# Altium footprint library BQ4050.PcbLib: 55 footprints (part 2 of 4)
Each footprint in its own frame and in the unit in brackets; x right, y up, seen from the top. Pads: shape width x height; smd on the part's side, far side on the other; paste and mask are expansions set on the pad; w line width, h text height; cw(c..) or ccw(c..) is an arc to the next point about the centre after c.
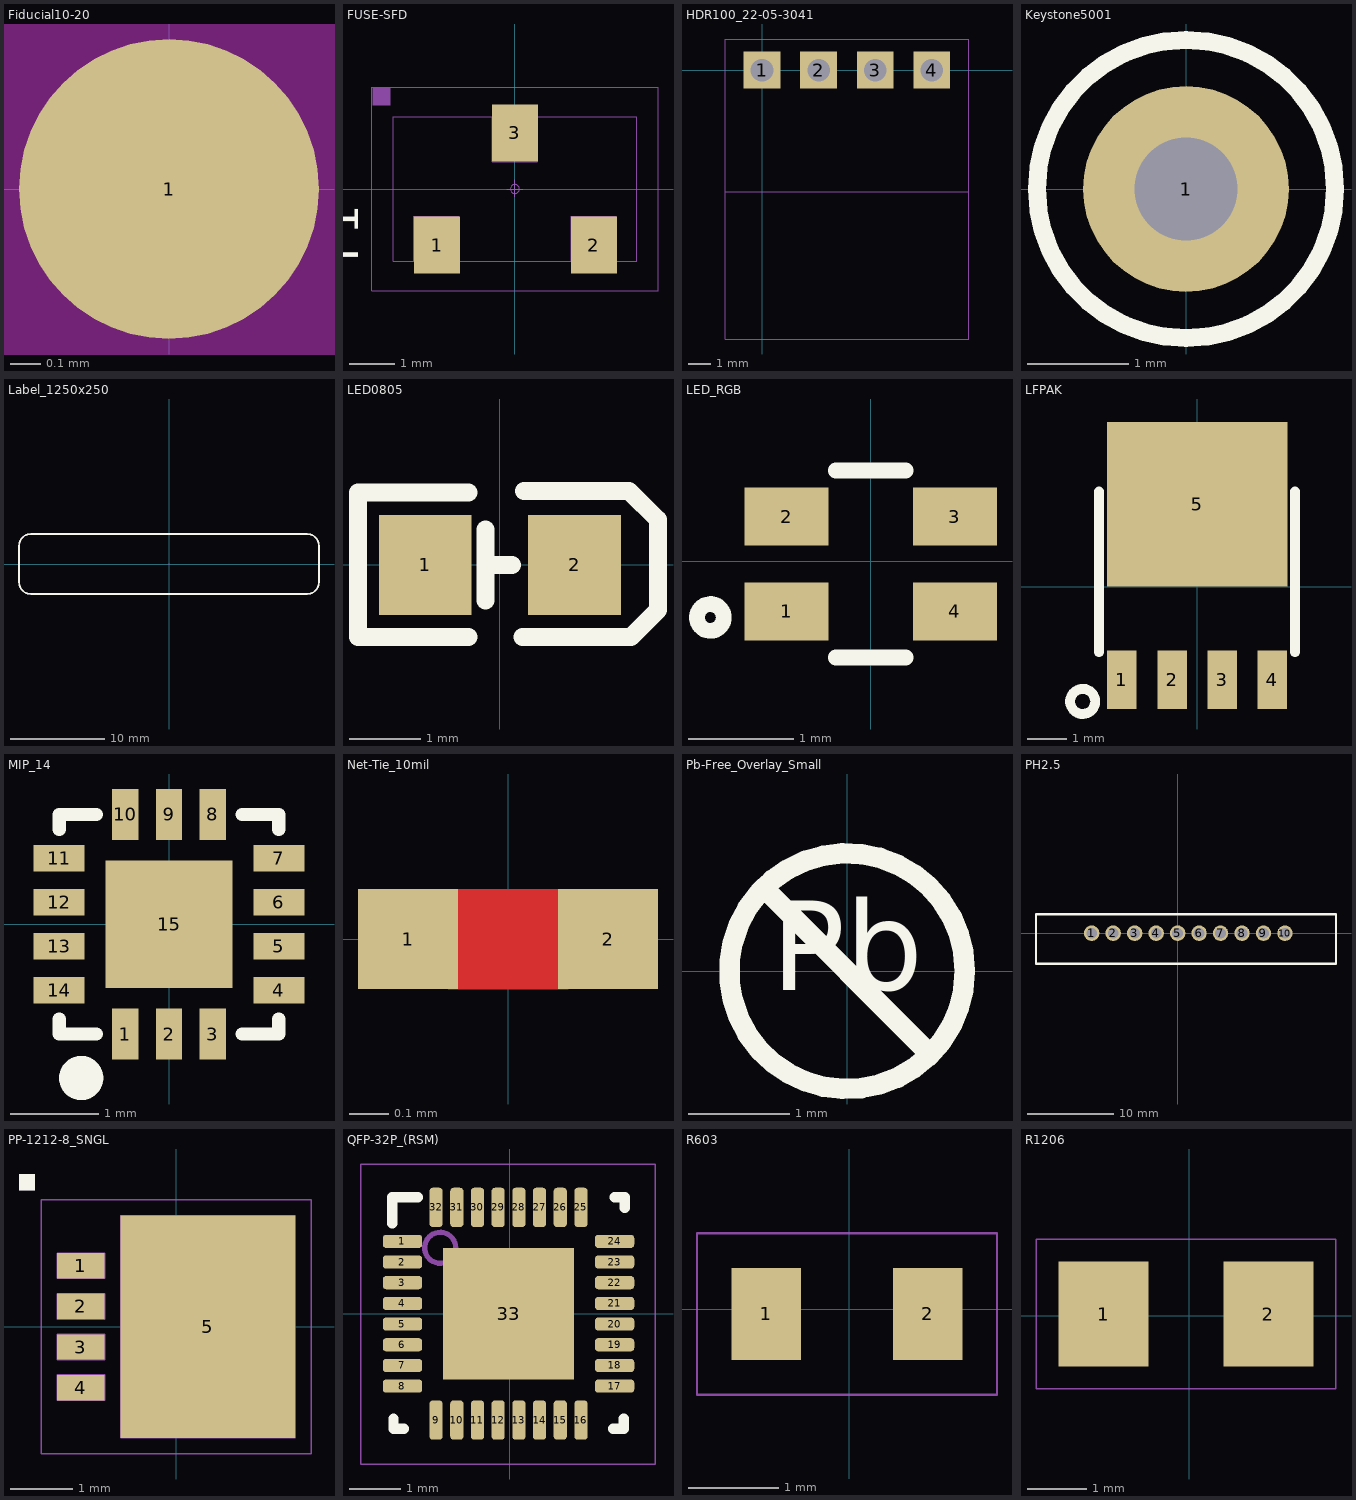
[diagram p1: the footprints below, top view; thin cyan lines are the x and y axes]

## Fiducial10-20 [mm]
pads (1):
  round 1 smd mask+0.5: 1(0,0)
Top Layer keep-out:
  circle w1.178: c0,0 r0.5

## FUSE-SFD [mil]
pads (3):
  rect 40x50 smd: 1(-68,-49) 2(69,-49) 3(0,49)
Top Overlay:
  text "F1" at -137,-63.57 h30
Mechanical 1:
  region: -124,73 -109,73 -109,88 -124,88
Mechanical 5:
  lines w1: -125,-89 -125,89 125,89 125,-89 -125,-89
Mechanical 16:
  circle w1: c0,0 r3.94
  lines w1: -73.66,-43.31 -63.82,-43.31 ; -68.74,-48.23 -68.74,-38.39 ; -6.89,0 6.89,0 ; -4.92,43.31 4.92,43.31 ; 0,-6.89 0,7.87 ; 0,38.39 0,48.23 ; 63.82,-43.31 73.66,-43.31 ; 68.74,-48.23 68.74,-38.39 ; -106.3,-62.99 106.3,-62.99 106.3,62.99 -106.3,62.99 -106.3,-62.99 ; -88.43,-62.99 -49.06,-62.99 -49.06,-23.62 -88.43,-23.62 -88.43,-62.99 ; -19.68,23.62 19.68,23.62 19.68,62.99 -19.68,62.99 -19.68,23.62 ; 49.06,-62.99 88.43,-62.99 88.43,-23.62 49.06,-23.62 49.06,-62.99

## HDR100_22-05-3041 [mil]
pads (4):
  rect 65x65 hole 40: 1(0,0) 2(100,0) 3(200,0) 4(300,0)
Mechanical 5:
  lines w1.1: -64.9,-215 365.1,-215 ; -64.9,-475 -64.9,55 365.1,55 365.1,-475 -64.9,-475

## Keystone5001 [mil] "For Keystone 500x miniature loop terminals"
height 181.1
pads (1):
  round 80 hole 40: 1(0,0)
Top Overlay:
  circle w7: c0,0 r58
Mechanical 5:
  circle w5: c0,0 r58.31
3D body "Keystone_5001.stp": height 181.97, standoff -118.11, extent -49,-49 49.04,49.24

## Label_1250x250 [mil] "Thermal Transfer Labels"
height 1
pads (1):
  round 1 on Mech13: 0(0,0)
Top Overlay:
  lines w7: -625,-75 ccw(c-575,-75) -575,-125 575,-125 ccw(c575,-75) 625,-75 625,75 ccw(c575,75) 575,125 -575,125 ccw(c-575,75) -625,75 -625,-75
Mechanical 5:
  lines w5: -625,-75 ccw(c-575,-75) -575,-125 575,-125 ccw(c575,-75) 625,-75 625,75 ccw(c575,75) 575,125 -575,125 ccw(c-575,75) -625,75 -625,-75
3D body: height 1, standoff 0, extent -625.02,-125.02 625.02,125.02

## LED0805 [mm]
pads (2):
  rect 1.3x1.4 smd: 1(-1.05,0) 2(1.05,0)
Top Overlay:
  lines w0.254: -0.443,-1.015 -1.993,-1.015 -1.993,1.017 -0.443,1.017 ; -0.2,-0.5 -0.2,0.5 ; -0.1,0 0.169,0 ; 0.319,-1.015 1.843,-1.015 2.224,-0.634 2.224,0.636 1.817,1.043 0.344,1.043

## LED_RGB [mm]
pads (4):
  rect 0.8x0.55 smd: 1(-0.8,-0.475) 2(-0.8,0.425) 3(0.8,0.425) 4(0.8,-0.475)
Top Overlay:
  circle w0.15: c-1.524,-0.534 r0.127
  lines w0.15: -0.332,-0.914 0.332,-0.914 ; -0.332,0.864 0.332,0.864

## LFPAK [mm]
pads (5):
  rect 0.75x1.5 smd: 1(-1.92,-2.367) 2(-0.64,-2.367) 3(0.64,-2.367) 4(1.92,-2.367)
  rect 4.6x4.2 smd: 5(0,2.113)
Top Overlay:
  circle w0.254: c-2.921,-2.921 r0.32
  lines w0.254: -2.502,-1.665 -2.502,2.434 ; 2.499,-1.665 2.499,2.434
3D body "LFPAK.stp": height 1.18, standoff -0.02, extent -2.425,-2.77 2.475,3.658

## MIP_14 [mm]
pads (15):
  rect 0.3x0.58 smd: 1(-0.5,-1.25) 2(0,-1.25) 3(0.5,-1.25) 8(0.5,1.25) 9(0,1.25) 10(-0.5,1.25)
  rect 0.58x0.3 smd: 4(1.25,-0.75) 5(1.25,-0.25) 6(1.25,0.25) 7(1.25,0.75) 11(-1.25,0.75) 12(-1.25,0.25) 13(-1.25,-0.25) 14(-1.25,-0.75)
  rect 1.45x1.45 smd: 15(0,0)
Top Overlay:
  circle w0.254: c-1,-1.75 r0.125
  lines w0.15: -1.25,-1.079 -1.25,-1.25 -0.829,-1.25 ; -1.25,1.079 -1.25,1.25 -0.829,1.25 ; 0.829,-1.25 1.25,-1.25 1.25,-1.079 ; 0.829,1.25 1.25,1.25 1.25,1.079

## Net-Tie_10mil [mil] "10mil net tie, no solder mask opening, no solder paste"
pads (2):
  rect 10x10 smd paste-5 mask-5: 1(-10,0) 2(10,0)
Top Layer:
  region: -6,5 6,5 6,-5 -6,-5

## Pb-Free_Overlay_Small [mm]
Top Overlay:
  circle w0.203: c0,0 r1.168
  lines w0.203: -0.826,0.826 0.826,-0.826
  text "Pb" at -0.752,-0.48 h1.52

## PH2.5 [mm]
pads (10):
  round 1.8 hole 1.25: 1(-10,0) 2(-7.5,0) 3(-5,0) 4(-2.5,0) 5(0,0) 6(2.5,0) 7(5,0) 8(7.5,0) 9(10,0) 10(12.5,0)
Top Overlay:
  lines w0.254: -16.485,-3.556 18.44,-3.556 18.44,2.21 -16.485,2.21 -16.485,-3.556

## PP-1212-8_SNGL [mil]
pads (5):
  rect 30x16 smd: 1(-60,38.39) 2(-60,12.8) 3(-60,-12.8) 4(-60,-38.39)
  rect 110x140 smd: 5(20,0)
Top Overlay:
  region: -99,86 -89,86 -89,96 -94,96 -99,96
Mechanical 2:
  region: -99,86 -89,86 -89,96 -99,96
Mechanical 5:
  lines w1: -85,-80 85,-80 85,80 -85,80 -85,-80
Mechanical 16:
  lines w0.98: -75,-46.39 -75,-30.39 -45,-30.39 -45,-46.39 -75,-46.39 ; -75,-20.8 -75,-4.8 -45,-4.8 -45,-20.8 -75,-20.8 ; -75,4.8 -75,20.8 -45,20.8 -45,4.8 -75,4.8 ; -75,30.39 -75,46.39 -45,46.39 -45,30.39 -75,30.39 ; -35,-70 -35,70 75,70 75,-70 -35,-70

## QFP-32P_(RSM) [mil]
pads (33):
  rrect50% 30x10 smd: 1(-81.71,55.12) 2(-81.71,39.37) 3(-81.71,23.62) 4(-81.71,7.87) 5(-81.71,-7.87) 6(-81.71,-23.62) 7(-81.71,-39.37) 8(-81.71,-55.12) 17(79.71,-55.12) 18(79.71,-39.37) 19(79.71,-23.62) 20(79.71,-7.87) 21(79.71,7.87) 22(79.71,23.62) 23(79.71,39.37) 24(79.71,55.12)
  rrect50% 10x30 smd: 9(-56.12,-80.91) 10(-40.37,-80.91) 11(-24.62,-80.91) 12(-8.87,-80.91) 13(6.87,-80.91) 14(22.62,-80.91) 15(38.37,-80.91) 16(54.12,-80.91) 25(54.12,80.91) 26(38.37,80.91) 27(22.62,80.91) 28(6.87,80.91) 29(-8.87,80.91) 30(-24.62,80.91) 31(-40.37,80.91) 32(-56.12,80.91)
  rect 100x100 smd: 33(-1,0)
Top Overlay:
  lines w7.87: -89.6,68.91 -89.6,88.6 -69.91,88.6 ; -88.6,-79.72 -88.6,-87.6 -80.72,-87.6 ; 78.72,-87.6 86.6,-87.6 86.6,-79.72 ; 79.72,88.6 87.6,88.6 87.6,80.72
Mechanical 5:
  circle w3.94: c-53.01,50.2 r11.81
  lines w1: -113.6,-114.37 110.81,-114.37 110.81,113.98 -113.6,113.98 -113.6,-114.37
3D body "RSM0032A.stp": height 39.37, standoff 0, extent -79.73,-78.74 77.74,78.74
3D body: height 39.76, standoff 19.68, extent -65.89,38.33 -42.31,61.91
3D body: height 0, standoff 0, extent -64.8,38.41 -41.22,61.99

## R603 [mil]
pads (2):
  rect 30x40 smd: 1(-36,-2) 2(34,-2)
Mechanical 5:
  lines w1: -66,-37 -66,33 64,33 64,-37 -66,-37

## R1206 [mil]
pads (2):
  rect 60x70 smd: 1(-57,1) 2(53,1)
Mechanical 5:
  lines w1: -102,-49 98,-49 98,51 -102,51 -102,-49